# EAGLE library part MAA8451Q (library William)
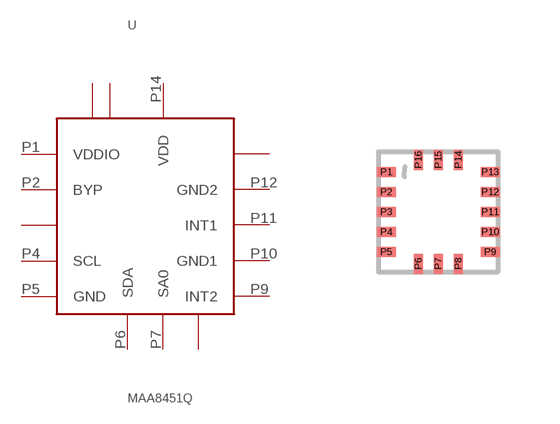
[diagram p0: symbol with the pads of QFN16; footprint QFN16]

Designator prefix -

## MAA8451Q  [QFN16]
P1  VDDIO
P2  BYP
P3  NC  nc
P4  SCL
P5  GND
P6  SDA
P7  SA0
P8  NC1  nc
P9  INT2
P10  GND1
P11  INT1
P12  GND2
P13  NC2  nc
P14  VDD
P15  NC3  nc
P16  NC4  nc

## Footprint QFN16 (pad centres in mm)
smd 0.5 x 0.25: P1 0.2,2.5; P2 0.2,2; P3 0.2,1.5; P4 0.2,1; P5 0.2,0.5; P9 2.8,0.5; P10 2.8,1; P11 2.8,1.5; P12 2.8,2; P13 2.8,2.5
smd 0.25 x 0.5: P6 1,0.2; P7 1.5,0.2; P8 2,0.2; P14 2,2.8; P15 1.5,2.8; P16 1,2.8